# Altium schematic symbol library SCH - SENSOR- LEM - CASR15-NP.Schlib: 1 symbol
Pins are listed as number, name and electrical type; pins without a type are passive.

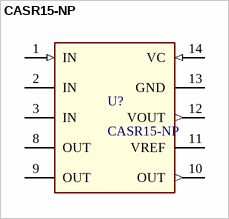
[diagram p0: symbol CASR15-NP]

## CASR15-NP
designator U?
Sensor Current Flux 15A Ac/dc
pins: 1 IN (in), 2 IN, 3 IN, 8 OUT, 9 OUT, 10 OUT (out), 11 VREF, 12 VOUT (out), 13 GND, 14 VC (in)